# Altium schematic symbol library CN MOLEX 4365002XX.Schlib: 1 symbol
Pins are listed as number, name and electrical type; pins without a type are passive.

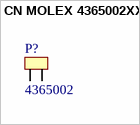
[diagram p0: symbol CN MOLEX 4365002XX]

## CN MOLEX 4365002XX
designator P?, comment 4365002
MOLEX MICROFIT 2CKT RIGHT THRU; MP: 4365002XX; MF: MOLEX; Digikey: WM17581-ND; Digikey Link: https://www.digikey.com/en/products/detail/molex/0436500205/3310532?s=N4IgTCBcDaICwGYBsBWADGsaUgLoF8g; Package: Microfit; Price: 1.44 CAD; Value: N/A; Supplier 1: Digi-Key
footprint 43650-02 (Molex Microfit 2PIN RightAngle Thru)
pins: 1, 2